# Altium footprint library transform.PcbLib: 53 footprints (part 2 of 4)
Each footprint in its own frame and in the unit in brackets; x right, y up, seen from the top. Pads: shape width x height; smd on the part's side, far side on the other; paste and mask are expansions set on the pad; w line width, h text height; cw(c..) or ccw(c..) is an arc to the next point about the centre after c.
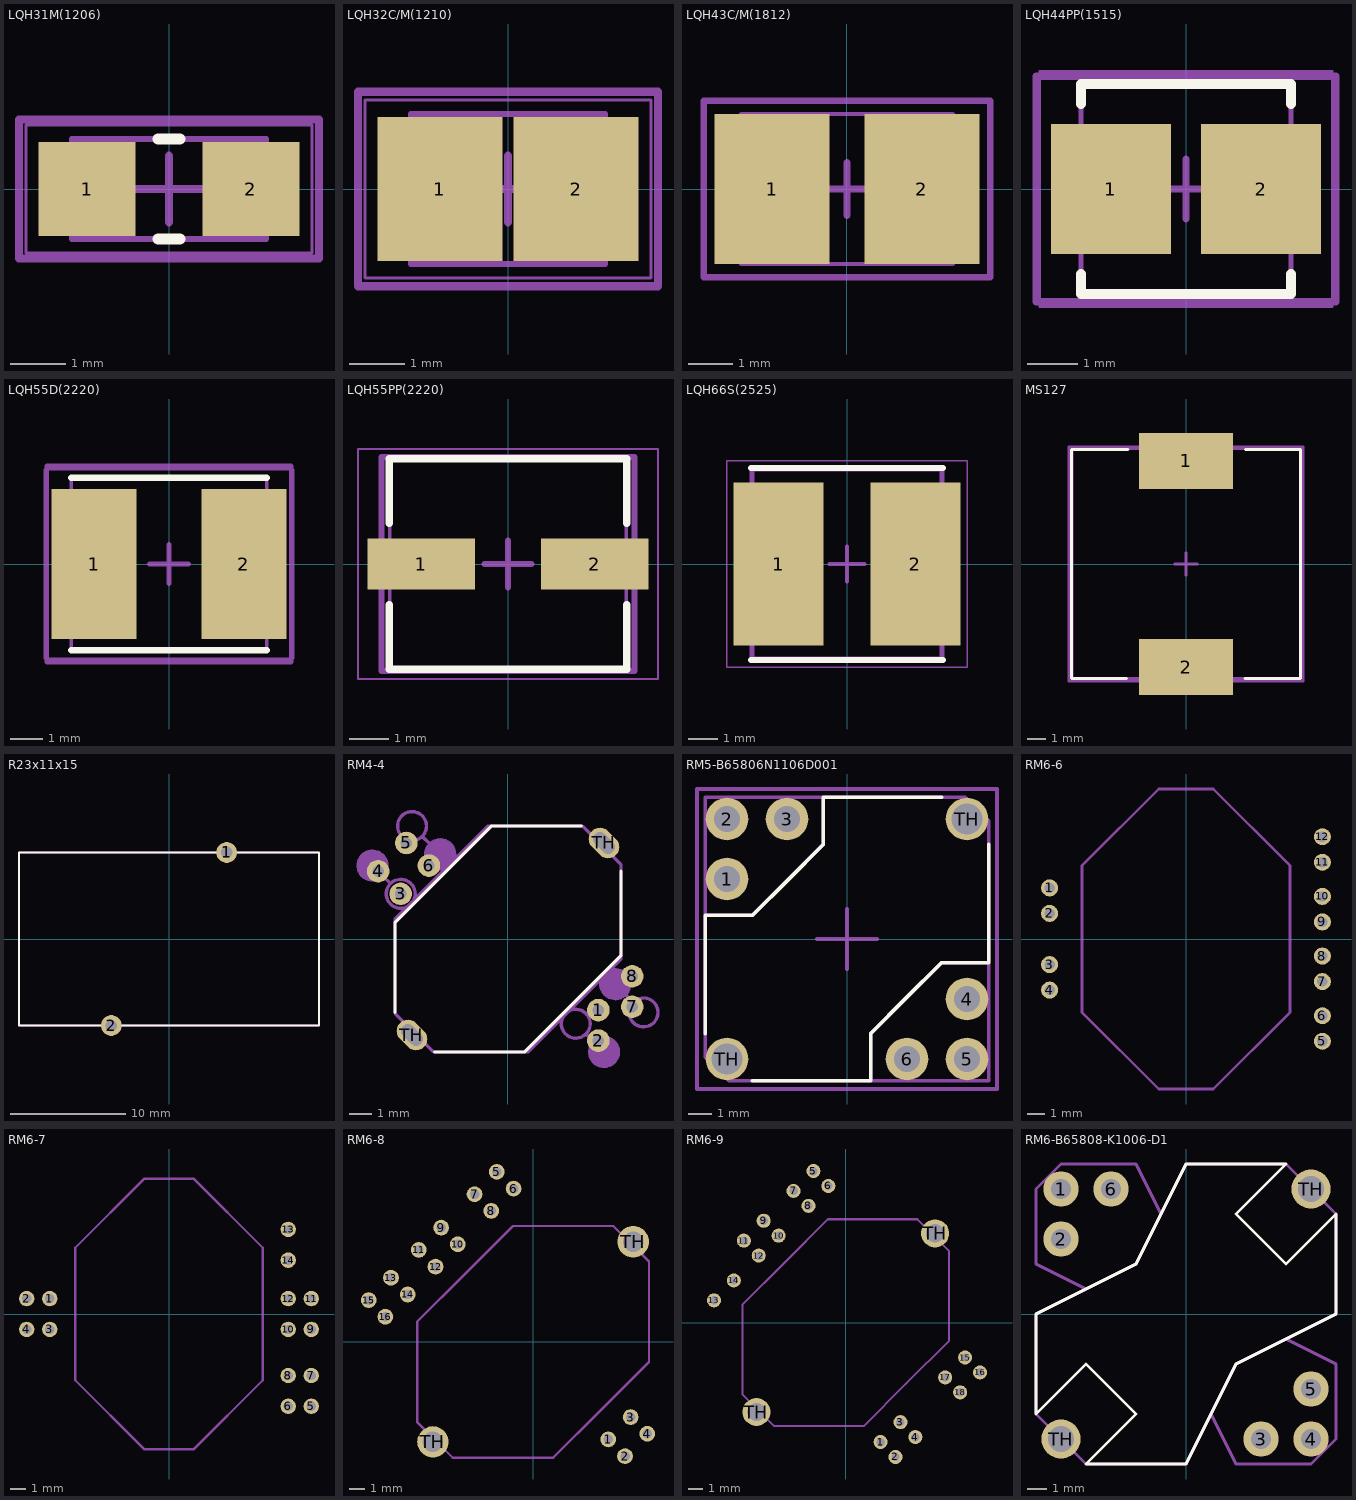
[diagram p1: the footprints below, top view; thin cyan lines are the x and y axes]

## LQH31M(1206) [mm] "LQH31M Series 1206 Case"
height 2
pads (2):
  rect 1.75x1.7 smd: 1(-1.475,0) 2(1.475,0)
Top Overlay:
  lines w0.2: -0.2,-0.9 0.2,-0.9 ; -0.2,0.9 0.2,0.9
Assembly Top:
  lines w0.1: -1.75,-0.9 1.75,-0.9 1.75,0.9 -1.75,0.9 -1.75,-0.9
Courtyard Top:
  lines w0.05: -2.575,-1.15 2.575,-1.15 2.575,1.15 -2.575,1.15 -2.575,-1.15
  lines w0.1: -0.5,0 0.5,0 ; 0,-0.5 0,0.5
Mechanical 15:
  lines w0.15: -0.6,0 0,0 ; 0,-0.6 0,0 ; 0,0.6 0,0 ; 0.6,0 0,0 ; -2.7,-1.25 -2.7,1.25 2.7,1.25 2.7,-1.25 -2.7,-1.25
3D body: height 2, standoff 0, extent -1.75,-0.9 1.75,0.9

## LQH32C/M(1210) [mm] "LQH32C/M Series 1210 Case"
height 2.2
pads (2):
  rect 2.25x2.6 smd: 1(-1.225,0) 2(1.225,0)
Assembly Top:
  lines w0.1: -1.75,-1.35 1.75,-1.35 1.75,1.35 -1.75,1.35 -1.75,-1.35
Courtyard Top:
  lines w0.05: -2.575,-1.6 2.575,-1.6 2.575,1.6 -2.575,1.6 -2.575,-1.6
  lines w0.1: -0.5,0 0.5,0 ; 0,-0.5 0,0.5
Mechanical 15:
  lines w0.15: -0.6,0 0,0 ; 0,-0.6 0,0 ; 0,0.6 0,0 ; 0.6,0 0,0 ; -2.7,-1.75 -2.7,1.75 2.7,1.75 2.7,-1.75 -2.7,-1.75
3D body "User Library-LQH32PN_sw.STEP": height 1.55, standoff 0, extent -1.6,-1.25 1.6,1.25

## LQH43C/M(1812) [mm] "LQH43C/M Series 1812 Case"
height 2.8
pads (2):
  rect 2.6x3.4 smd: 1(-1.7,0) 2(1.7,0)
Assembly Top:
  lines w0.1: -2.4,-1.7 -2.4,1.7 2.4,1.7 2.4,-1.7 -2.4,-1.7
Courtyard Top:
  lines w0.05: -3.225,-1.95 -3.225,1.95 3.225,1.95 3.225,-1.95 -3.225,-1.95
  lines w0.1: -0.5,0 0.5,0 ; 0,-0.5 0,0.5
Mechanical 15:
  lines w0.15: -0.6,0 0,0 ; 0,-0.6 0,0 ; 0,0.6 0,0 ; 0.6,0 0,0 ; -3.25,-2 -3.25,2 3.25,2 3.25,-2 -3.25,-2
3D body: height 2.8, standoff 0, extent -2.4,-1.7 2.4,1.7

## LQH44PP(1515) [mm] "LQH44PP Series 1515 Case"
height 1.7
pads (2):
  rect 2.4x2.6 smd: 1(-1.5,0) 2(1.5,0)
Top Overlay:
  lines w0.2: -2.1,-1.7 -2.1,-2.1 2.1,-2.1 2.1,-1.7 ; -2.1,1.7 -2.1,2.1 2.1,2.1 2.1,1.7
Assembly Top:
  lines w0.1: -2.1,-2.1 -2.1,2.1 2.1,2.1 2.1,-2.1 -2.1,-2.1
Courtyard Top:
  lines w0.05: -2.925,-2.35 -2.925,2.35 2.925,2.35 2.925,-2.35 -2.925,-2.35
  lines w0.1: -0.5,0 0.5,0 ; 0,-0.5 0,0.5
Mechanical 15:
  lines w0.15: -0.6,0 0,0 ; 0,-0.6 0,0 ; 0,0.6 0,0 ; 0.6,0 0,0 ; -3,-2.25 -3,2.25 3,2.25 3,-2.25 -3,-2.25
3D body: height 1.7, standoff 0, extent -2.1,-2.1 2.1,2.1

## LQH55D(2220) [mm] "LQH55D Series 2220"
height 5
pads (2):
  rect 2.6x4.6 smd: 1(-2.3,0) 2(2.3,0)
Top Overlay:
  lines w0.2: -3,-2.65 3,-2.65 ; -3,2.65 3,2.65
Assembly Top:
  lines w0.1: -3,-2.65 3,-2.65 3,2.65 -3,2.65 -3,-2.65
Courtyard Top:
  lines w0.05: -3.825,-2.9 3.825,-2.9 3.825,2.9 -3.825,2.9 -3.825,-2.9
  lines w0.1: -0.5,0 0.5,0 ; 0,-0.5 0,0.5
Mechanical 15:
  lines w0.15: -0.6,0 0,0 ; 0,-0.6 0,0 ; 0,0.6 0,0 ; 0.6,0 0,0 ; -3.75,-3 -3.75,3 3.75,3 3.75,-3 -3.75,-3
3D body: height 5, standoff 0, extent -3,-2.65 3,2.65

## LQH55PP(2220) [mm] "LQH55PP Series 2220 Case"
height 2
pads (2):
  rect 2.75x1.3 smd: 1(-2.225,0) 2(2.225,0)
Top Overlay:
  lines w0.2: -3.05,-1.05 -3.05,-2.7 3.05,-2.7 3.05,-1.05 ; -3.05,1.05 -3.05,2.7 3.05,2.7 3.05,1.05
Assembly Top:
  lines w0.1: -3.035,-2.7 -3.035,2.7 3.035,2.7 3.035,-2.7 -3.035,-2.7
Courtyard Top:
  lines w0.05: -3.85,-2.95 -3.85,2.95 3.85,2.95 3.85,-2.95 -3.85,-2.95
  lines w0.1: -0.5,0 0.5,0 ; 0,-0.5 0,0.5
Mechanical 15:
  lines w0.15: -0.6,0 0,0 ; 0,-0.6 0,0 ; 0,0.6 0,0 ; 0.6,0 0,0 ; -3.25,-2.75 -3.25,2.75 3.25,2.75 3.25,-2.75 -3.25,-2.75
3D body: height 2, standoff 0, extent -3.035,-2.7 3.035,2.7

## LQH66S(2525) [mm] "LQH66S Series 2525 Case"
height 5
pads (2):
  rect 3.1x5.6 smd: 1(-2.35,0) 2(2.35,0)
Top Overlay:
  lines w0.2: -3.3,-3.3 3.3,-3.3 ; -3.3,3.3 3.3,3.3
Assembly Top:
  lines w0.1: -3.3,-3.3 -3.3,3.3 3.3,3.3 3.3,-3.3 -3.3,-3.3
Courtyard Top:
  lines w0.05: -4.125,-3.55 -4.125,3.55 4.125,3.55 4.125,-3.55 -4.125,-3.55
  lines w0.1: -0.5,0 0.5,0 ; 0,-0.5 0,0.5
Mechanical 15:
  lines w0.15: -0.6,0 0,0 ; 0,-0.6 0,0 ; 0,0.6 0,0 ; 0.6,0 0,0 ; -3.25,-3.25 -3.25,3.25 3.25,3.25 3.25,-3.25 -3.25,-3.25
3D body: height 5, standoff 0, extent -3.3,-3.3 3.3,3.3

## MS127 [mm]
height 7
pads (2):
  rect 5x3 smd: 1(0,5.5) 2(0,-5.5)
Top Overlay:
  lines w0.15: -3.175,-6.1 -6.1,-6.1 -6.1,6.1 -3.1,6.1 ; 3.15,-6.1 6.1,-6.1 6.1,6.1 3.175,6.1
Mechanical 15:
  lines w0.15: -0.6,0 0,0 ; 0,-0.6 0,0 ; 0,0.6 0,0 ; 0.6,0 0,0 ; -6.25,-6.25 -6.25,6.25 6.25,6.25 6.25,-6.25 -6.25,-6.25
Mechanical 29:
  lines w0.15: -6.075,-6.1 -6.075,6.15 6.1,6.15 6.1,-6.1 -6.075,-6.1
3D body "User Library-Inductor SRR1280 Series.STEP": height 7.51, standoff 0, extent -6.1,-6.2 6.1,6

## R23x11x15 [mm]
height 26
pads (2):
  round 1.8 hole 1 unplated: 1(5,7.5) 2(-5,-7.5)
Top Overlay:
  lines w0.15: -13,-7.5 -13,7.5 13,7.5 13,-7.5 -13,-7.5
Mechanical 29:
  lines w0.15: -13,-7.5 13,-7.5 13,7.5 -13,7.5 -13,-7.5

## RM4-4 [mm]
pads (10):
  round 1 hole 0.5: 1(4,-3.15) 2(4,-4.5) 3(-4.75,2) 4(-5.75,3) 5(-4.5,4.25) 6(-3.5,3.25) 7(5.5,-3) 8(5.5,-1.65)
  rrect100% 1x1.5 hole 1.1 slot 0.6 at 45 deg rot 45: TH(-4.25,-4.25) TH(4.25,4.25)
Top Overlay:
  lines w0.15: -5,-3.25 -5,0.75 -0.75,5 3.25,5 ; -3.25,-5 0.75,-5 5,-0.75 5,3
Mechanical 29:
  lines w0.15: -5,-3.3 -5,0.9 -0.9,5 3.3,5 5,3.3 5,-0.9 0.9,-5 -3.3,-5 -5,-3.3
Mechanical 31:
  circle w0.15: c-4.75,2 r0.64
  circle w0.15: c-6,3.25 r0.64
  circle w0.15: c-4.25,5 r0.64
  circle w0.15: c-3,3.75 r0.64
  circle w0.15: c3,-3.75 r0.64
  circle w0.15: c4.25,-5 r0.64
  circle w0.15: c6,-3.25 r0.64
  circle w0.15: c4.75,-2 r0.64
  region: 4.11,-2 4.11,-2.127 4.207,-2.363 4.387,-2.543 4.623,-2.64 4.75,-2.64 4.877,-2.64 5.113,-2.543 5.293,-2.363 5.39,-2.127 5.39,-2 5.39,-1.873 5.293,-1.637 5.113,-1.457 4.877,-1.36 4.75,-1.36 4.623,-1.36 4.387,-1.457 4.207,-1.637 4.11,-1.873
  region: 3.61,-5 3.61,-5.127 3.707,-5.363 3.887,-5.543 4.123,-5.64 4.25,-5.64 4.377,-5.64 4.613,-5.543 4.793,-5.363 4.89,-5.127 4.89,-5 4.89,-4.873 4.793,-4.637 4.613,-4.457 4.377,-4.36 4.25,-4.36 4.123,-4.36 3.887,-4.457 3.707,-4.637 3.61,-4.873
  region: -6.64,3.25 -6.64,3.123 -6.543,2.887 -6.363,2.707 -6.127,2.61 -6,2.61 -5.873,2.61 -5.637,2.707 -5.457,2.887 -5.36,3.123 -5.36,3.25 -5.36,3.377 -5.457,3.613 -5.637,3.793 -5.873,3.89 -6,3.89 -6.127,3.89 -6.363,3.793 -6.543,3.613 -6.64,3.377
  region: -3.64,3.75 -3.64,3.623 -3.543,3.387 -3.363,3.207 -3.127,3.11 -3,3.11 -2.873,3.11 -2.637,3.207 -2.457,3.387 -2.36,3.623 -2.36,3.75 -2.36,3.877 -2.457,4.113 -2.637,4.293 -2.873,4.39 -3,4.39 -3.127,4.39 -3.363,4.293 -3.543,4.113 -3.64,3.877
  lines w0.15: -5.537,2.788 -5.212,2.462 ; -3.787,4.537 -3.462,4.212 ; 3.462,-4.212 3.787,-4.537 ; 5.212,-2.462 5.537,-2.788 ; -5,-3.3 -3.3,-5 0.9,-5 5,-0.9 5,3.3 3.3,5 -0.9,5 -5,0.9 -5,-3.3
  text ".Designator" at -2.225,-2.6 h2
  text "4" at -3.625,0.4 h2
  text "3" at -1.775,2.175 h2
  text "2" at 1.9,-3.2 h2
  text "1" at 3.825,-1.4 h2
3D body "KV-4-TRANS.STEP": height 10.4, standoff 0, extent -7.106,-7.106 7.106,7.106

## RM5-B65806N1106D001 [mm]
height 12
pads (8):
  round 1.8 hole 1.1: 1(-5.08,2.54) 2(-5.08,5.08) 3(-2.54,5.08) 4(5.08,-2.54) 5(5.08,-5.08) 6(2.54,-5.08)
  round 1.8 hole 1.3: TH(-5.08,-5.08) TH(5.08,5.08)
Top Overlay:
  lines w0.15: -6,-4 -6,1 -4,1 -2.5,2.5 -1,4 -1,6 4,6 ; -4,-6 1,-6 1,-4 2.5,-2.5 4,-1 6,-1 6,4
Mechanical 15:
  lines w0.15: -1.27,0 1.27,0 ; 0,-1.27 0,1.27 ; -6.35,-6.35 6.35,-6.35 6.35,6.35 -6.35,6.35 -6.35,-6.35
Mechanical 29:
  lines w0.15: -6,1 -4,1 -1,4 -1,6 ; -6,1 -6,-5 -5,-6 1,-6 ; -6,1 -6,6 -1,6 ; -1,6 5,6 6,5 6,-1 ; 1,-6 1,-4 4,-1 6,-1 ; 1,-6 6,-6 6,-1
3D body: height 3, standoff -3, extent -5.576,4.581 -4.58,5.579
3D body: height 3, standoff -3, extent -5.576,2.041 -4.58,3.039
3D body: height 3, standoff -3, extent -3.036,4.581 -2.04,5.579
3D body: height 3, standoff -3, extent 4.584,-3.039 5.58,-2.041
3D body: height 3, standoff -3, extent 4.584,-5.579 5.58,-4.581
3D body: height 3, standoff -3, extent 2.044,-5.579 3.04,-4.581
3D body: height 12, standoff 0.5, extent -6,-6 6,6
3D body: height 2, standoff 1.5, extent -6,-6 6,6

## RM6-6 [mm]
pads (12):
  round 1 hole 0.6: 1(-8,3) 2(-8,1.5) 3(-8,-1.5) 4(-8,-3) 5(8,-6) 6(8,-4.5) 7(8,-2.5) 8(8,-1) 9(8,1) 10(8,2.5) 11(8,4.5) 12(8,6)
Mechanical 29:
  lines w0.15: -6.1,-4.3 -1.6,-8.8 0,-8.8 1.6,-8.8 6.1,-4.3 6.1,0 6.1,4.3 1.6,8.8 0,8.8 -1.6,8.8 -6.1,4.3 -6.1,0 -6.1,-4.3
3D body "KV-6-TRANS.STEP": height 13, standoff 0, extent -6.15,-8.8 6.15,8.8

## RM6-7 [mm]
pads (14):
  round 1 hole 0.6: 1(-7.75,1) 2(-9.25,1) 3(-7.75,-1) 4(-9.25,-1) 5(9.25,-6) 6(7.75,-6) 7(9.25,-4) 8(7.75,-4) 9(9.25,-1) 10(7.75,-1) 11(9.25,1) 12(7.75,1) 13(7.75,5.5) 14(7.75,3.5)
Mechanical 29:
  lines w0.15: -6.1,-4.3 -6.1,0 -6.1,4.3 -1.6,8.8 0,8.8 1.6,8.8 6.1,4.3 6.1,0 6.1,-4.3 1.6,-8.8 0,-8.8 -1.6,-8.8 -6.1,-4.3
3D body "KV-6-TRANS.STEP": height 13, standoff 0, extent -6.15,-8.8 6.15,8.8

## RM6-8 [mm]
pads (18):
  round 1 hole 0.6: 1(4.773,-6.187) 2(5.834,-7.248) 3(6.187,-4.773) 4(7.248,-5.834) 5(-2.298,10.783) 6(-1.237,9.723) 7(-3.712,9.369) 8(-2.652,8.309) 9(-5.834,7.248) 10(-4.773,6.187) 11(-7.248,5.834) 12(-6.187,4.773) 13(-9.016,4.066) 14(-7.955,3.005) 15(-10.43,2.652) 16(-9.369,1.591)
  round 2 hole 1.3: TH(-6.35,-6.35) TH(6.35,6.35)
Mechanical 29:
  lines w0.15: -7.354,-5.091 -6.223,-6.223 -5.091,-7.354 1.273,-7.354 4.313,-4.313 7.354,-1.273 7.354,5.091 6.223,6.223 5.091,7.354 -1.273,7.354 -4.313,4.313 -7.354,1.273 -7.354,-5.091
3D body "RM6.STEP": height 12.6, standoff -4.67, extent -7.842,-7.842 7.843,7.843

## RM6-9 [mm]
pads (20):
  round 1 hole 0.6: 1(2.475,-8.485) 2(3.536,-9.546) 3(3.889,-7.071) 4(4.95,-8.132) 5(-2.298,10.783) 6(-1.237,9.723) 7(-3.712,9.369) 8(-2.652,8.309) 9(-5.834,7.248) 10(-4.773,6.187) 11(-7.248,5.834) 12(-6.187,4.773) 13(-9.369,1.591) 14(-7.955,3.005) 15(8.485,-2.475) 16(9.546,-3.536) 17(7.071,-3.889) 18(8.132,-4.95)
  round 2 hole 1.3: TH(-6.35,-6.35) TH(6.35,6.35)
Mechanical 29:
  lines w0.15: -7.354,-5.091 -7.354,1.273 -4.313,4.313 -1.273,7.354 5.091,7.354 6.223,6.223 7.354,5.091 7.354,-1.273 4.313,-4.313 1.273,-7.354 -5.091,-7.354 -6.223,-6.223 -7.354,-5.091
3D body "RM6.STEP": height 12.6, standoff -4.67, extent -7.842,-7.842 7.843,7.843

## RM6-B65808-K1006-D1 [mm]
height 15
pads (8):
  round 1.8 hole 1: 1(-6.35,6.35) 2(-6.35,3.81) 3(3.81,-6.35) 4(6.35,-6.35) 5(6.35,-3.81) 6(-3.81,6.35)
  round 2 hole 1.3: TH(-6.35,-6.35) TH(6.35,6.35)
Top Overlay:
  lines w0.15: -7.62,-5.08 -5.08,-2.54 -2.54,-5.08 -5.08,-7.62 0,-7.62 2.54,-2.54 7.62,0 7.62,5.08 5.08,2.54 2.54,5.08 5.08,7.62 0,7.62 -2.54,2.54 -7.62,0 -7.62,-5.08
Mechanical 29:
  lines w0.15: -5.08,1.27 -7.62,2.54 -7.62,6.35 -6.35,7.62 -2.54,7.62 -1.27,5.08 ; 1.27,-5.08 2.54,-7.62 3.81,-7.62 6.35,-7.62 7.62,-6.35 7.62,-2.54 5.08,-1.27 ; -7.62,-5.08 -5.08,-7.62 0,-7.62 2.54,-2.54 7.62,0 7.62,5.08 5.08,7.62 0,7.62 -2.54,2.54 -7.62,0 -7.62,-5.08
3D body "RM6.STEP": height 12.6, standoff -4.67, extent -7.842,-7.842 7.843,7.843